# EAGLE library part 691313510024 (library Wuerth_Elektronik_eiCan_Terminal_Blocks_v2.0)
WR-TBL Serie 313 - 5.08 mm Close Horizontal PCB Header , 24 Pins
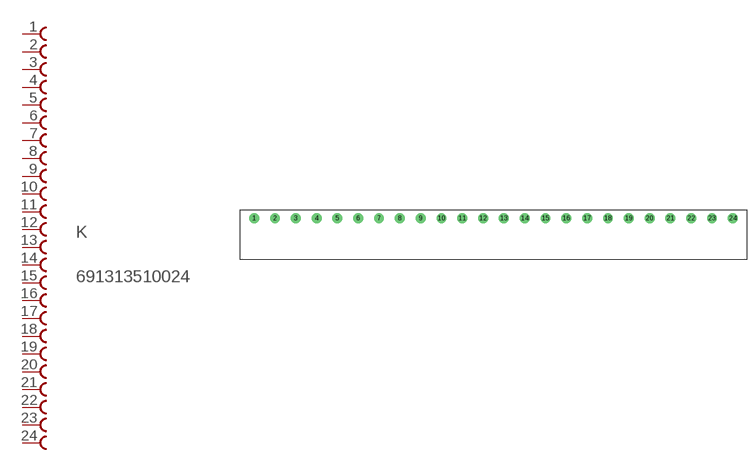
[diagram p130: symbol with the pads of 691313510024; footprint 691313510024]

Designator prefix K

## 691313510024  [691313510024]
1  1  pas
2  2  pas
3  3  pas
4  4  pas
5  5  pas
6  6  pas
7  7  pas
8  8  pas
9  9  pas
10  10  pas
11  11  pas
12  12  pas
13  13  pas
14  14  pas
15  15  pas
16  16  pas
17  17  pas
18  18  pas
19  19  pas
20  20  pas
21  21  pas
22  22  pas
23  23  pas
24  24  pas

## Footprint 691313510024 (pad centres in mm)
WR-TBL Serie 313 - 5.08 mm Close Horizontal PCB Header , 24 Pins
drill 1.6 round: 1 -45.72,0; 2 -40.64,0; 3 -35.56,0; 4 -30.48,0; 5 -25.4,0; 6 -20.32,0; 7 -15.24,0; 8 -10.16,0; 9 -5.08,0; 10 0,0; 11 5.08,0; 12 10.16,0; 13 15.24,0; 14 20.32,0; 15 25.4,0; 16 30.48,0; 17 35.56,0; 18 40.64,0; 19 45.72,0; 20 50.8,0; 21 55.88,0; 22 60.96,0; 23 66.04,0; 24 71.12,0